# Altium footprint library Header254Female_GCT_BG300-04-X-X-A_REVC.PcbLib: 1 footprints
Each footprint in its own frame and in the unit in brackets; x right, y up, seen from the top. Pads: shape width x height; smd on the part's side, far side on the other; paste and mask are expansions set on the pad; w line width, h text height; cw(c..) or ccw(c..) is an arc to the next point about the centre after c.
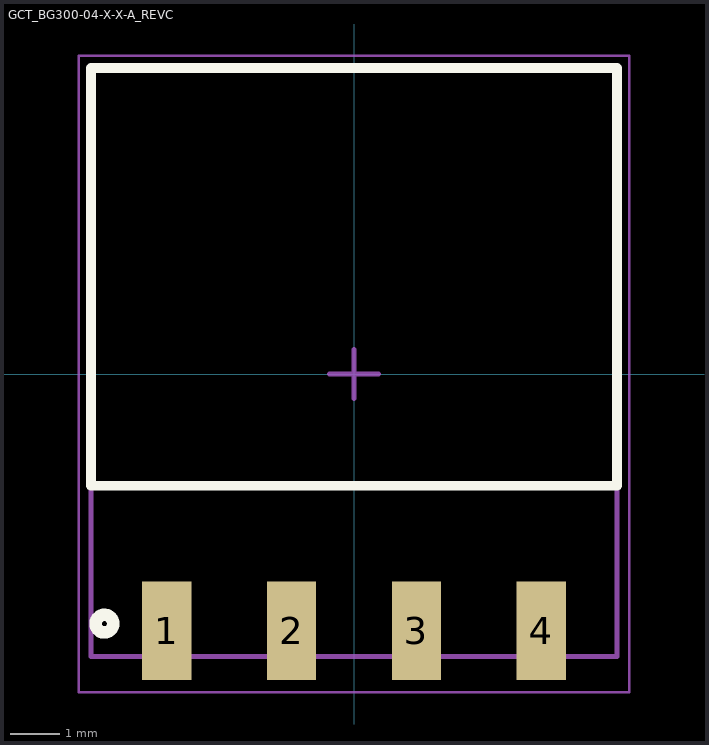
[diagram p0: the footprint, top view; thin cyan lines are the x and y axes]

## GCT_BG300-04-X-X-A_REVC [mm]
pads (4):
  rect 1x2 smd: 1(-3.81,-5.225) 2(-1.27,-5.225) 3(1.27,-5.225) 4(3.81,-5.225)
Top Overlay:
  circle w0.254: c-5.08,-5.08 r0.18
  lines w0.2: -5.355,-2.275 5.355,-2.275 5.355,6.225 -5.355,6.225 -5.355,-2.275
Assembly Top:
  lines w0.1: -5.355,-5.75 5.355,-5.75 5.355,6.2 -5.355,6.2 -5.355,-5.75
Courtyard Top:
  lines w0.05: -5.605,-6.475 5.605,-6.475 5.605,6.475 -5.605,6.475 -5.605,-6.475
  lines w0.1: -0.5,0 0.5,0 ; 0,-0.5 0,0.5
3D body "step_temp.STEP": height 2.65, standoff 0, extent -5.355,-5.725 5.355,6.225